# Altium schematic symbol library CP2102N-A02-GQFN24R.SchLib: 1 symbol
Pins are listed as number, name and electrical type; pins without a type are passive.

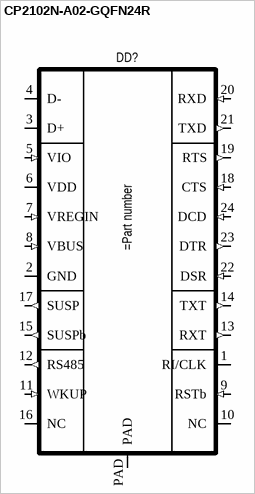
[diagram p0: symbol CP2102N-A02-GQFN24R]

## CP2102N-A02-GQFN24R
designator DD?
Single-Chip USB-to-UART
pins: 1 RI/CLK (io), 2 GND, 3 D+ (io), 4 D- (io), 5 VIO (in), 6 VDD (io), 7 VREGIN (in), 8 VBUS (in), 9 RSTb (in), 10 NC, 11 WKUP (in), 12 RS485 (out), 13 RXT (out), 14 TXT (out), 15 SUSPb (out), 16 NC, 17 SUSP (out), 18 CTS (in), 19 RTS (out), 20 RXD (in), 21 TXD (out), 22 DSR (in), 23 DTR (out), 24 DCD (in), PAD